# Altium integrated library WS-ROTU THT Rotary Switch 10x10 mm.IntLib: 4 symbols
Pins are listed as number, name and electrical type; pins without a type are passive.

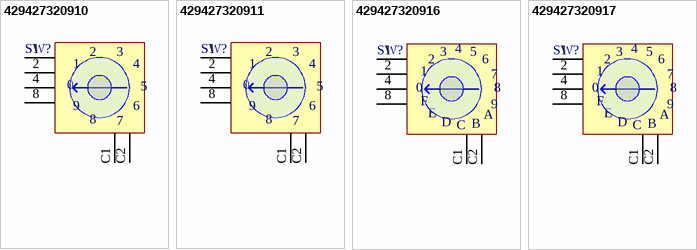
[diagram p0: symbols 429427320910 to 429427320917]

## 429427320910
designator SW?
WS-ROTU THT Rotary Switch 10x10 mm; PartNumber: 429427320910; NoPins: 06; PackageReference: 429427320910; ComponentLink1Description: Manufacturer URL; ComponentLink1URL: http://www.we-online.com; ComponentLink2Description: Datasheet; ComponentLink2URL: http://katalog.we-online.de/em/datasheet/429427320910.pdf
footprint 429427320910 (10 position, 5,08mm Pitch, Right Angled type, THT, Round Arrow type, dark grey actuator, real code, Tube)
pins: 1, 2, 4, 8, C1, C2
text: 3; 0; 5; 9; 6; 7

## 429427320911
designator SW?
WS-ROTU THT Rotary Switch 10x10 mm; PartNumber: 429427320911; NoPins: 06; PackageReference: 429427320911; ComponentLink1Description: Manufacturer URL; ComponentLink1URL: http://www.we-online.com; ComponentLink2Description: Datasheet; ComponentLink2URL: http://katalog.we-online.de/em/datasheet/429427320911.pdf
footprint 429427320911 (10 position, 5,08mm Pitch, Right Angled type, THT, Round Arrow type, ivory actuator, complement code, Tube)
pins: 1, 2, 4, 8, C1, C2
text: 3; 0; 5; 9; 6; 7

## 429427320916
designator SW?
WS-ROTU THT Rotary Switch 10x10 mm; PartNumber: 429427320916; NoPins: 06; PackageReference: 429427320916; ComponentLink1Description: Manufacturer URL; ComponentLink1URL: http://www.we-online.com; ComponentLink2Description: Datasheet; ComponentLink2URL: http://katalog.we-online.de/em/datasheet/429427320916.pdf
footprint 429427320916 (16 position, 5,08mm Pitch, Right Angled type, THT, Round Arrow type, dark grey actuator, real code, Tube)
pins: 1, 2, 4, 8, C1, C2
text: 3; 5; 6; 7; 0; F; 9; E; A; D; C; B

## 429427320917
designator SW?
WS-ROTU THT Rotary Switch 10x10 mm; PartNumber: 429427320917; NoPins: 06; PackageReference: 429427320917; ComponentLink1Description: Manufacturer URL; ComponentLink1URL: http://www.we-online.com; ComponentLink2Description: Datasheet; ComponentLink2URL: http://katalog.we-online.de/em/datasheet/429427320917.pdf
footprint 429427320917 (16 position, 5,08mm Pitch, Right Angled type, THT, Round Arrow type, ivory actuator, complement code, Tube)
pins: 1, 2, 4, 8, C1, C2
text: 3; 5; 6; 7; 0; F; 9; E; A; D; C; B